# Altium footprint library HLK-5M03.PcbLib: 5 footprints
Each footprint in its own frame and in the unit in brackets; x right, y up, seen from the top. Pads: shape width x height; smd on the part's side, far side on the other; paste and mask are expansions set on the pad; w line width, h text height; cw(c..) or ccw(c..) is an arc to the next point about the centre after c.
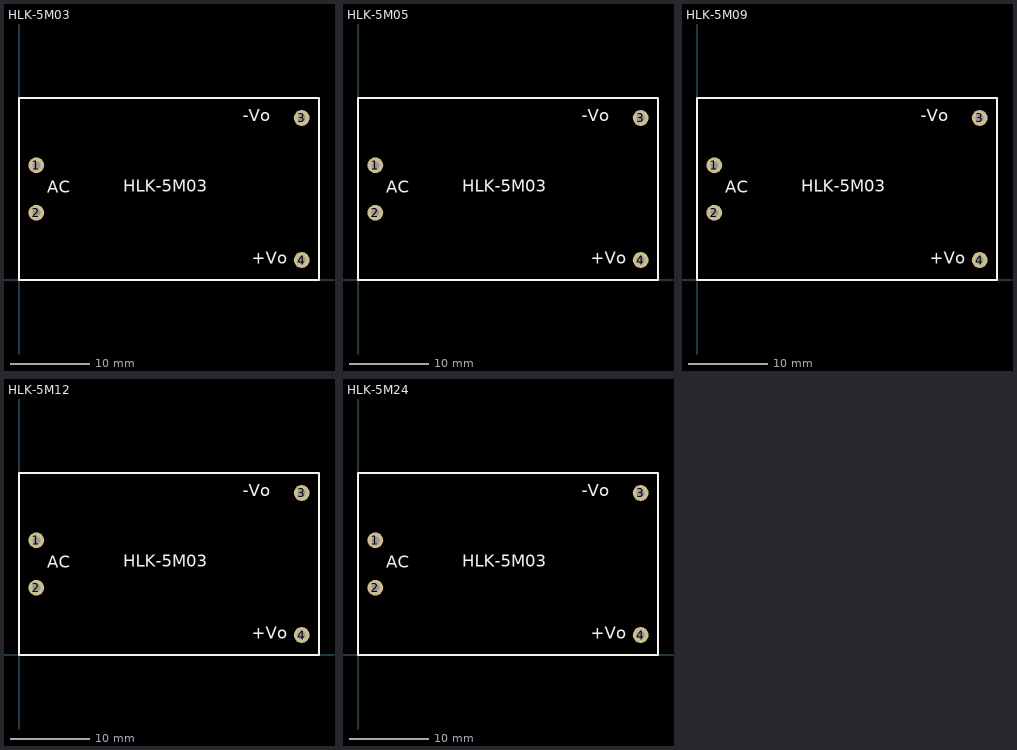
[diagram p0: the footprints below, top view; thin cyan lines are the x and y axes]

## HLK-5M03 [mm] "HLK-5M03 100-250Vac/3.3Vcc 5W"
pads (4):
  round 2 hole 1: 1(2.2,14.5) 2(2.2,8.5) 3(35.8,20.5) 4(35.8,2.5)
Top Overlay:
  lines w0.254: 0,0 0,23 38,23 38,0 0,0
  text "HLK-5M03" at 13.208,11.176 h1.52
  text "+Vo" at 29.464,2.032 h1.52
  text "-Vo" at 28.321,20.066 h1.52
  text "AC" at 3.556,11.049 h1.52
3D body "HLK-5M03.stp": height 18.01, standoff -2, extent -0.027,0 37.973,23

## HLK-5M05 [mm] "HLK-5M05 100-250Vac/5Vcc 5W"
pads (4):
  round 2 hole 1: 1(2.2,14.5) 2(2.2,8.5) 3(35.8,20.5) 4(35.8,2.5)
Top Overlay:
  lines w0.254: 0,0 38,0 38,23 0,23 0,0
  text "AC" at 3.556,11.049 h1.52
  text "-Vo" at 28.321,20.066 h1.52
  text "+Vo" at 29.464,2.032 h1.52
  text "HLK-5M03" at 13.208,11.176 h1.52
3D body "HLK-5M05.stp": height 18.01, standoff -2, extent -0.027,0 37.973,23

## HLK-5M09 [mm] "HLK-5M09 100-250Vac/9Vcc 5W"
pads (4):
  round 2 hole 1: 1(2.2,14.5) 2(2.2,8.5) 3(35.8,20.5) 4(35.8,2.5)
Top Overlay:
  lines w0.254: 0,0 38,0 38,23 0,23 0,0
  text "AC" at 3.556,11.049 h1.52
  text "-Vo" at 28.321,20.066 h1.52
  text "+Vo" at 29.464,2.032 h1.52
  text "HLK-5M03" at 13.208,11.176 h1.52
3D body "HLK-5M09.stp": height 18.01, standoff -2, extent -0.027,0 37.973,23

## HLK-5M12 [mm] "HLK-5M12 100-250Vac/12Vcc 5W"
pads (4):
  round 2 hole 1: 1(2.2,14.5) 2(2.2,8.5) 3(35.8,20.5) 4(35.8,2.5)
Top Overlay:
  lines w0.254: 0,0 38,0 38,23 0,23 0,0
  text "AC" at 3.556,11.049 h1.52
  text "-Vo" at 28.321,20.066 h1.52
  text "+Vo" at 29.464,2.032 h1.52
  text "HLK-5M03" at 13.208,11.176 h1.52
3D body "HLK-5M12.stp": height 18.01, standoff -2, extent -0.027,0 37.973,23

## HLK-5M24 [mm] "HLK-5M24 100-250Vac/24Vcc 5W"
pads (4):
  round 2 hole 1: 1(2.2,14.5) 2(2.2,8.5) 3(35.8,20.5) 4(35.8,2.5)
Top Overlay:
  lines w0.254: 0,0 0,23 38,23 38,0 0,0
  text "HLK-5M03" at 13.208,11.176 h1.52
  text "+Vo" at 29.464,2.032 h1.52
  text "-Vo" at 28.321,20.066 h1.52
  text "AC" at 3.556,11.049 h1.52
3D body "HLK-5M24.stp": height 18.01, standoff -2, extent -0.027,0 37.973,23